# EAGLE library part ESP32-DEVKITC (library mylib)
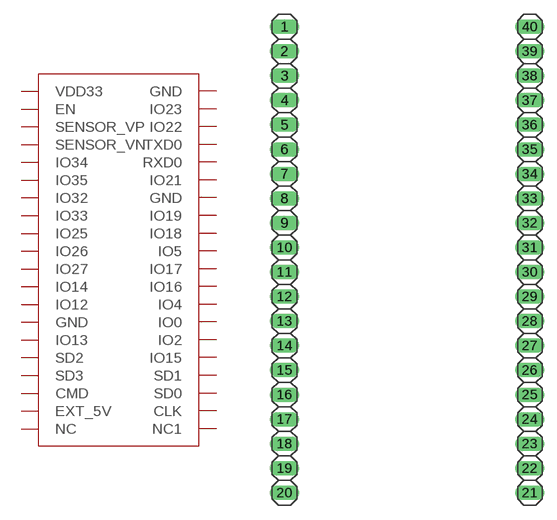
[diagram p1: symbol with the pads of ESP32-DEVKITC; footprint ESP32-DEVKITC]

Designator prefix -

## ESP32-DEVKITC  [ESP32-DEVKITC]
1  VDD33  sup
2  EN
3  SENSOR_VP
4  SENSOR_VN
5  IO34
6  IO35
7  IO32
8  IO33
9  IO25
10  IO26
11  IO27
12  IO14
13  IO12
14  GND  pwr
15  IO13
16  SD2
17  SD3
18  CMD
19  EXT_5V  sup
20  NC  nc
21  NC1  nc
22  CLK
23  SD0
24  SD1
25  IO15
26  IO2
27  IO0
28  IO4
29  IO16
30  IO17
31  IO5
32  IO18
33  IO19
34  GND  pwr
35  IO21
36  RXD0
37  TXD0
38  IO22
39  IO23
40  GND  pwr

## Footprint ESP32-DEVKITC (pad centres in mm)
drill 1.016 long: 1 -12.7,24.13; 2 -12.7,21.59; 3 -12.7,19.05; 4 -12.7,16.51; 5 -12.7,13.97; 6 -12.7,11.43; 7 -12.7,8.89; 8 -12.7,6.35; 9 -12.7,3.81; 10 -12.7,1.27; 11 -12.7,-1.27; 12 -12.7,-3.81; 13 -12.7,-6.35; 14 -12.7,-8.89; 15 -12.7,-11.43; 16 -12.7,-13.97; 17 -12.7,-16.51; 18 -12.7,-19.05; 19 -12.7,-21.59; 20 -12.7,-24.13; 21 12.7,-24.13; 22 12.7,-21.59; 23 12.7,-19.05; 24 12.7,-16.51; 25 12.7,-13.97; 26 12.7,-11.43; 27 12.7,-8.89; 28 12.7,-6.35; 29 12.7,-3.81; 30 12.7,-1.27; 31 12.7,1.27; 32 12.7,3.81; 33 12.7,6.35; 34 12.7,8.89; 35 12.7,11.43; 36 12.7,13.97; 37 12.7,16.51; 38 12.7,19.05; 39 12.7,21.59; 40 12.7,24.13